# Altium footprint library MD9927.PcbLib: 1 footprints
Each footprint in its own frame and in the unit in brackets; x right, y up, seen from the top. Pads: shape width x height; smd on the part's side, far side on the other; paste and mask are expansions set on the pad; w line width, h text height; cw(c..) or ccw(c..) is an arc to the next point about the centre after c.
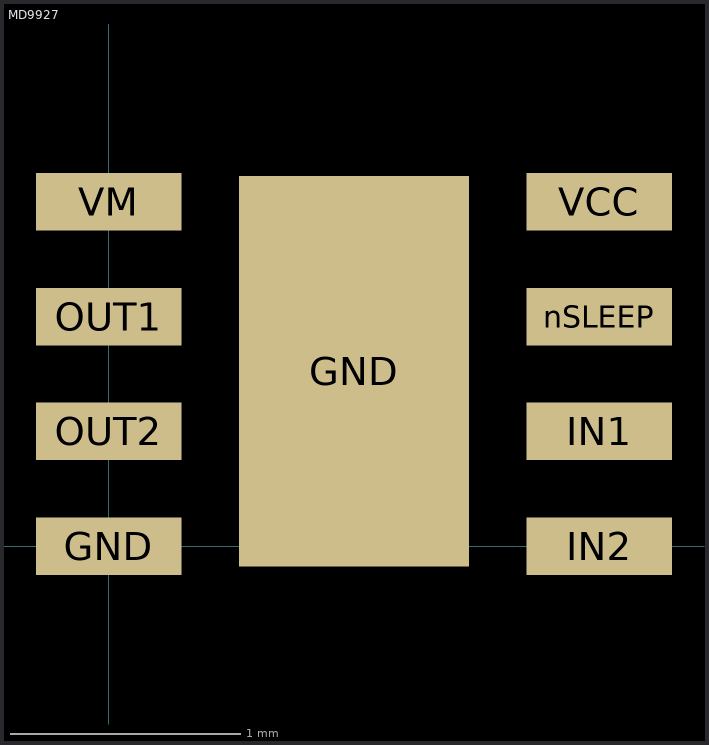
[diagram p0: the footprint, top view; thin cyan lines are the x and y axes]

## MD9927 [mm]
pads (9):
  rect 0.635x0.25 smd mask+0: GND(0,0) IN1(2.135,0.5) IN2(2.135,0) nSLEEP(2.135,1) OUT1(0,1) OUT2(0,0.5) VCC(2.135,1.5) VM(0,1.5)
  rect 1x1.7 smd mask+0: GND(1.068,0.762)